# Altium footprint library sigsub.PcbLib: 4 footprints
Each footprint in its own frame and in the unit in brackets; x right, y up, seen from the top. Pads: shape width x height; smd on the part's side, far side on the other; paste and mask are expansions set on the pad; w line width, h text height; cw(c..) or ccw(c..) is an arc to the next point about the centre after c.
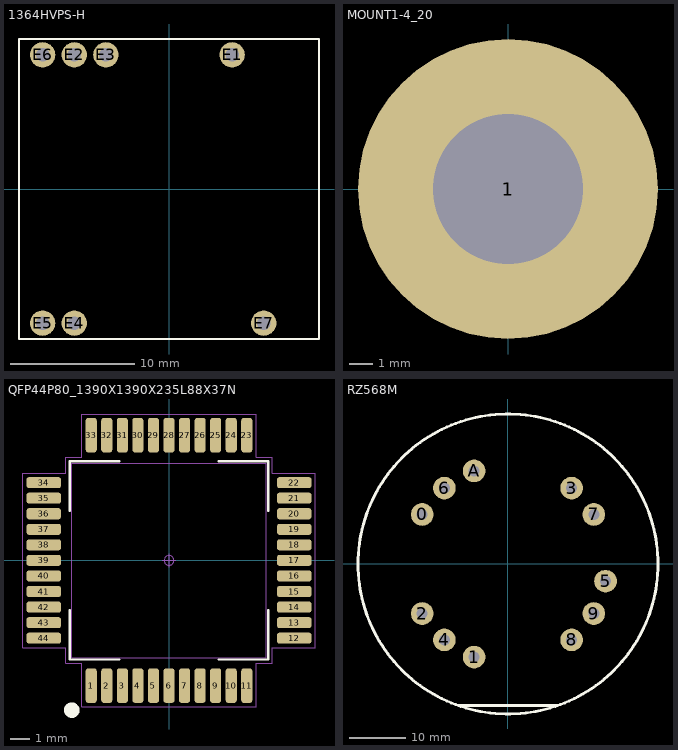
[diagram p0: the footprints below, top view; thin cyan lines are the x and y axes]

## 1364HVPS-H [mil] "High Voltage Power Supply"
pads (7):
  round 80 hole 42: E1(200,425) E2(-300,425) E3(-200,425) E4(-300,-425) E5(-400,-425) E6(-400,425) E7(300,-425)
Top Overlay:
  lines w7.87: -475,-475 475,-475 475,475 -475,475 -475,-475

## MOUNT1-4_20 [mm] "1/4-20 mount"
pads (1):
  round 12.7 hole 6.35: 1(0,0)

## QFP44P80_1390X1390X235L88X37N [mm] "Quad Flat Pack (QFP), 0.80 mm pitch; square, 11 pin X 11 pin, 10.00 mm L X 10.00 mm W X 2.35 mm H body"
height 2.35
pads (44):
  rrect49% 0.57x1.78 smd: 1(-4,-6.44) 2(-3.2,-6.44) 3(-2.4,-6.44) 4(-1.6,-6.44) 5(-0.8,-6.44) 6(0,-6.44) 7(0.8,-6.44) 8(1.6,-6.44) 9(2.4,-6.44) 10(3.2,-6.44) 11(4,-6.44) 23(4,6.44) 24(3.2,6.44) 25(2.4,6.44) 26(1.6,6.44) 27(0.8,6.44) 28(0,6.44) 29(-0.8,6.44) 30(-1.6,6.44) 31(-2.4,6.44) 32(-3.2,6.44) 33(-4,6.44)
  rrect49% 1.78x0.57 smd: 12(6.44,-4) 13(6.44,-3.2) 14(6.44,-2.4) 15(6.44,-1.6) 16(6.44,-0.8) 17(6.44,0) 18(6.44,0.8) 19(6.44,1.6) 20(6.44,2.4) 21(6.44,3.2) 22(6.44,4) 34(-6.44,4) 35(-6.44,3.2) 36(-6.44,2.4) 37(-6.44,1.6) 38(-6.44,0.8) 39(-6.44,0) 40(-6.44,-0.8) 41(-6.44,-1.6) 42(-6.44,-2.4) 43(-6.44,-3.2) 44(-6.44,-4)
Top Overlay:
  circle w0.4: c-5,-7.7 r0.2
  lines w0.12: -5.1,-2.56 -5.1,-5.1 -2.56,-5.1 ; -5.1,2.56 -5.1,5.1 -2.56,5.1 ; 2.56,-5.1 5.1,-5.1 5.1,-2.56 ; 2.56,5.1 5.1,5.1 5.1,2.56
Mechanical 15:
  circle w0.05: c0,0 r0.25
  lines w0.025: -5,-5 -5,5 5,5 5,-5 -5,-5
  lines w0.05: -0.35,0 0.35,0 ; 0,-0.35 0,0.35 ; -7.53,-4.485 -7.53,4.485 -5.3,4.485 -5.3,5.3 -4.485,5.3 -4.485,7.53 4.485,7.53 4.485,5.3 5.3,5.3 5.3,4.485 7.53,4.485 7.53,-4.485 5.3,-4.485 5.3,-5.3 4.485,-5.3 4.485,-7.53 -4.485,-7.53 -4.485,-5.3 -5.3,-5.3 -5.3,-4.485 -7.53,-4.485
3D body "QFP44P80_1390X1390X235L88X37.STEP": height 2.35, standoff 0, extent -6.95,-6.95 6.95,6.95

## RZ568M [mm] "Nixie Tube Socket"
pads (11):
  round 4 hole 1.95: 0(-15.155,8.75) 1(-5.985,-16.445) 2(-15.155,-8.75) 3(11.249,13.406) 4(-11.249,-13.406) 5(17.234,-3.039) 6(-11.249,13.406) 7(15.155,8.75) 8(11.249,-13.406) 9(15.155,-8.75) A(-5.985,16.445)
Top Overlay:
  circle w0.508: c0,0 r26.5
  lines w0.508: -8.7,-25 8.7,-25